# EAGLE library part AD5754R (library EagleParts)
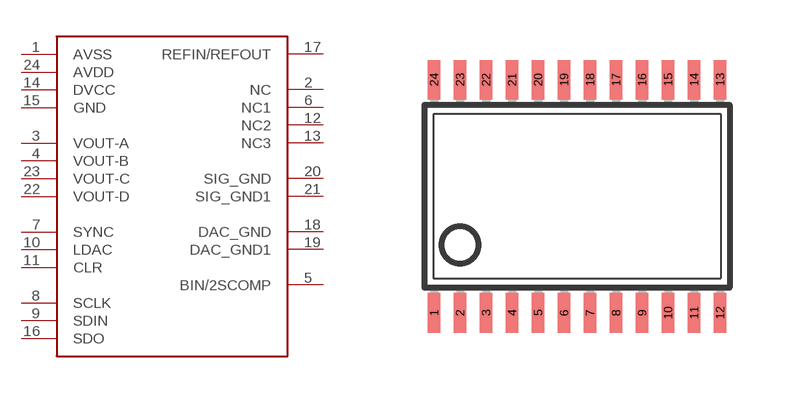
[diagram p1: symbol with the pads of TSSOP-24; footprint TSSOP-24]

Designator prefix -

## AD5754R  [TSSOP-24]
1  AVSS
2  NC
3  VOUT-A
4  VOUT-B
5  BIN/2SCOMP
6  NC1
7  SYNC
8  SCLK
9  SDIN
10  LDAC
11  CLR
12  NC2
13  NC3
14  DVCC
15  GND
16  SDO
17  REFIN/REFOUT
18  DAC_GND
19  DAC_GND1
20  SIG_GND
21  SIG_GND1
22  VOUT-D
23  VOUT-C
24  AVDD

## Footprint TSSOP-24 (pad centres in mm)
smd 0.305 x 0.991: 1 -3.575,-2.918; 2 -2.925,-2.918; 3 -2.275,-2.918; 4 -1.625,-2.918; 5 -0.975,-2.918; 6 -0.325,-2.918; 7 0.325,-2.918; 8 0.975,-2.918; 9 1.625,-2.918; 10 2.275,-2.918; 11 2.925,-2.918; 12 3.575,-2.918; 13 3.575,2.918; 14 2.925,2.918; 15 2.275,2.918; 16 1.625,2.918; 17 0.975,2.918; 18 0.325,2.918; 19 -0.325,2.918; 20 -0.975,2.918; 21 -1.625,2.918; 22 -2.275,2.918; 23 -2.925,2.918; 24 -3.575,2.918